# Altium schematic symbol library DR127-2R2-R.SchLib: 1 symbol
Pins are listed as number, name and electrical type; pins without a type are passive.

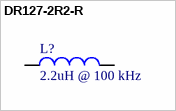
[diagram p0: symbol DR127-2R2-R]

## DR127-2R2-R
designator L?  Inductance: 2.2uH @ 100 kHz  (hidden comment: DR127-2R2-R)
Fixed Inductors 2.2uH 25.5A 0.004ohms; MFR: Coiltronics / Eaton; Current Rating: 12.5A; Tolerance: 20%; Shielding: Shielded; DC Resistance (DCR): 4.02mR; Test Frequency: 100kHz; PN: DR127-2R2-R; RoHS: Yes; Category: Fixed Inductors; Mount: Surface Mount; Min Operating Temperature: -40°C; Max Operating Temperature: 125°C; Saturation Current: 25.5A; Length: 12.5mm; Width: 12.5mm; Height: 8mm; ComponentLink1URL: https://www.mouser.ca/datasheet/2/87/eaton-dr-high-power-density-high-efficiency-shield-1608690.pdf; ComponentLink1Description: Datasheet; Supplier 1: Digi-Key; Supplier Part Number 1: 513-1220-1-ND; Footprint: DR127; Package: DR127
footprint DR127 (DR127 series footprint for DR127-2R2-R)
pins: 1, 2